# Altium footprint library LEDC1608X65N.PcbLib: 1 footprints
Each footprint in its own frame and in the unit in brackets; x right, y up, seen from the top. Pads: shape width x height; smd on the part's side, far side on the other; paste and mask are expansions set on the pad; w line width, h text height; cw(c..) or ccw(c..) is an arc to the next point about the centre after c.
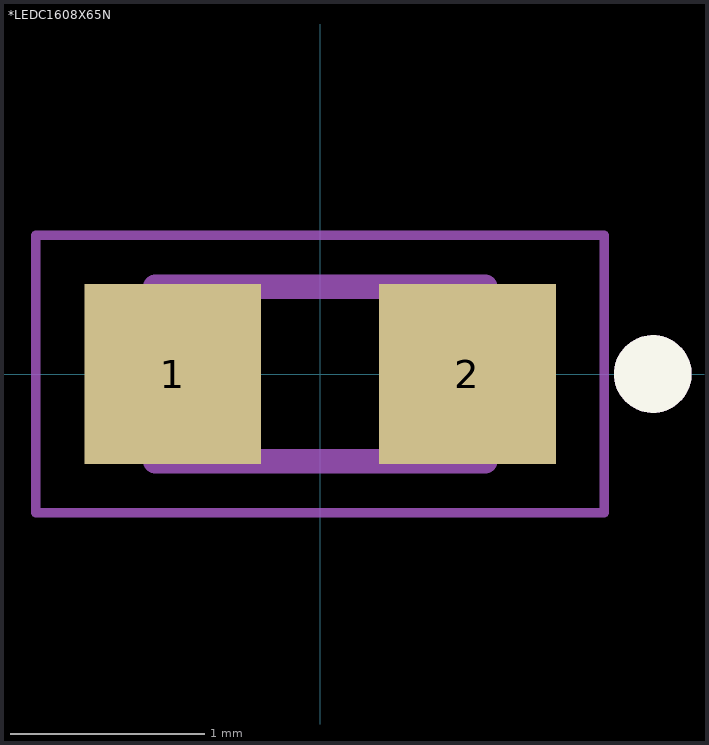
[diagram p0: the footprint, top view; thin cyan lines are the x and y axes]

## *LEDC1608X65N [mm]
pads (2):
  rect 0.91x0.93 smd: 1(-0.76,0) 2(0.76,0)
Top Overlay:
  circle w0.2: c1.715,0 r0.1
Mechanical 4:
  circle w0.2: c1.715,0 r0.1
  circle w0.2: c1.715,0 r0.1
  lines w0.127: -0.85,-0.45 -0.85,0.45 ; -0.85,-0.45 0.85,-0.45 ; -0.85,-0.45 -0.85,0.45 ; -0.85,-0.45 0.85,-0.45 ; -0.85,0.45 0.85,0.45 ; -0.85,0.45 0.85,0.45 ; 0.85,-0.45 0.85,0.45 ; 0.85,-0.45 0.85,0.45
Courtyard Bottom:
  lines w0.05: -1.465,-0.715 -1.465,0.715 1.465,0.715 1.465,-0.715 -1.465,-0.715
3D body: height 0.66, standoff 0, extent -0.851,-0.447 0.851,0.447